# Altium schematic symbol library Реле.SchLib: 4 symbols
Pins are listed as number, name and electrical type; pins without a type are passive.

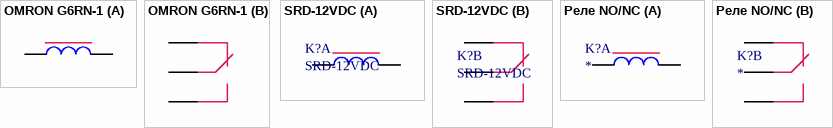
[diagram p0: symbols OMRON G6RN-1 to Реле NO/NC]

## OMRON G6RN-1
designator K?, comment ***  (value not drawn)
Rem: *; Package: *; Value: *; Tolerance: *; Power/Voltage: *; TKE: *; ManufacturerPartNumber: *; Manufacturer: *; Quantity: *; Примечание: *
footprint OMRON_G6RN_1
part A pins: 1, 5
part B pins: 2, 3, 4

## SRD-12VDC
designator K?
footprint SRD_xVDC
part A pins: 1, 2
part B pins: 3, 4, 5

## Реле NO/NC
designator K?
part A pins: 1, 2
part B pins: 3, 4, 5

## РЫБА_1
designator D?, comment ***  (value not drawn)
Rem: *; Package: *; Value: *; Tolerance: *; Power/Voltage: *; TKE: *; ManufacturerPartNumber: *; Manufacturer: *; Quantity: *; Примечание: *; Price: *